# EAGLE library part TX-BASEDRIVE-(DEMO) (library RediSem_New)
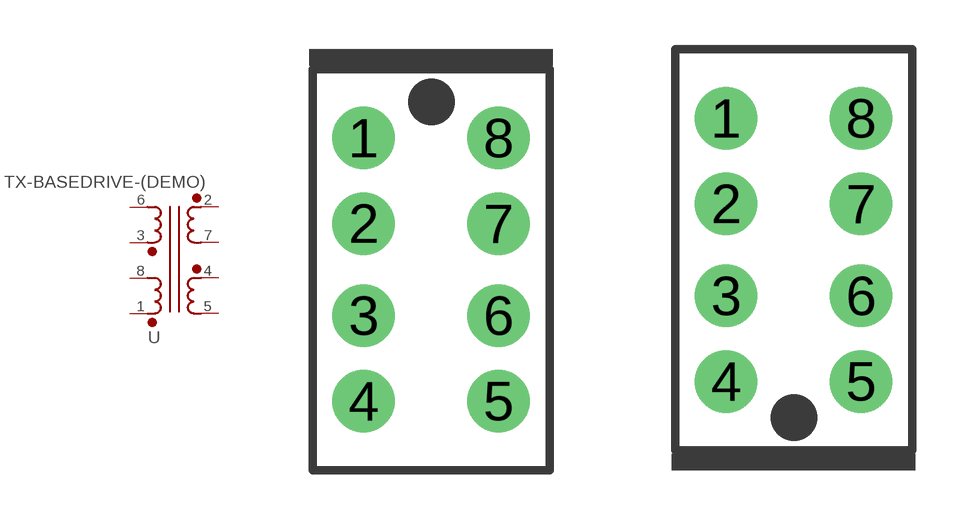
[diagram p3: symbol with the pads of BASE-7X12-(4+4)P-(DEMO); footprints BASE-7X12-(4+4)P-(DEMO), BASE-7X12-(4+4)-(DEMOB)]

Designator prefix -

## TX-BASEDRIVE-(DEMO)"  [BASE-7X12-(4+4)P-(DEMO)]
1  1  pas
2  2  pas
3  3  pas
4  4  pas
5  5  pas
6  6  pas
7  7  pas
8  8  pas

## TX-BASEDRIVE-(DEMO)-B  [BASE-7X12-(4+4)-(DEMOB)]
Pads as for BASE-7X12-(4+4)P-(DEMO)

## Footprint BASE-7X12-(4+4)P-(DEMO) (pad centres in mm)
drill 1.1 pad 1.9: 1 -2.05,4; 2 -2.05,1.4; 3 -2.05,-1.4; 4 -2.05,-4; 5 2.05,-4; 6 2.05,-1.4; 7 2.05,1.4; 8 2.05,4

## Footprint BASE-7X12-(4+4)-(DEMOB) (pad centres in mm)
drill 1.1 pad 1.9: 1 -2.05,4; 2 -2.05,1.4; 3 -2.05,-1.4; 4 -2.05,-4; 5 2.05,-4; 6 2.05,-1.4; 7 2.05,1.4; 8 2.05,4